# EAGLE library part LYPR540AH (library CSEDIT-SparkFun-Old)
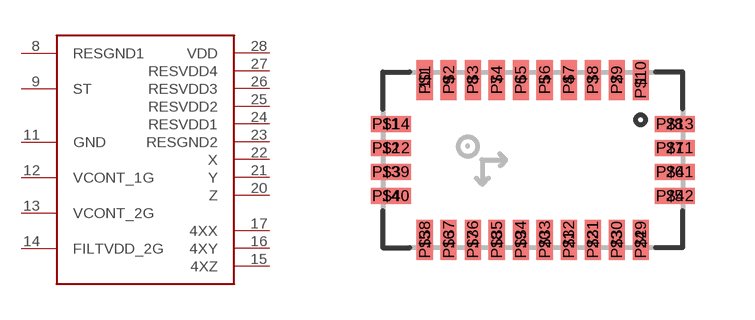
[diagram p291: symbol with the pads of LGA28L; footprint LGA28L]

Designator prefix -

## LYPR540AH  [LGA28L]
8  RESGND1
9  ST
11  GND
12  VCONT_1G
13  VCONT_2G
14  FILTVDD_2G
15  4XZ
16  4XY
17  4XX
20  Z
21  Y
22  X
23  RESGND2
24  RESVDD1
25  RESVDD2
26  RESVDD3
27  RESVDD4
28  VDD

## Footprint LGA28L (pad centres in mm)
smd 0.4 x 1: 1 2.7,2; 2 2.1,2; 3 1.5,2; 4 0.9,2; 5 0.3,2; 6 -0.3,2; 7 -0.9,2; 8 -1.5,2; 9 -2.1,2; 10 -2.7,2; 15 -2.7,-2; 16 -2.1,-2; 17 -1.5,-2; 18 -0.9,-2; 19 -0.3,-2; 20 0.3,-2; 21 0.9,-2; 22 1.5,-2; 23 2.1,-2; 24 2.7,-2; P$1 -2.7,2; P$2 -2.1,2; P$3 -1.5,2; P$4 -0.9,2; P$5 -0.3,2; P$6 0.3,2; P$7 0.9,2; P$8 1.5,2; P$9 2.1,2; P$10 2.7,2; P$29 2.7,-2; P$30 2.1,-2; P$31 1.5,-2; P$32 0.9,-2; P$33 0.3,-2; P$34 -0.3,-2; P$35 -0.9,-2; P$36 -1.5,-2; P$37 -2.1,-2; P$38 -2.7,-2
smd 1 x 0.4: 11 -3.55,0.9; 12 -3.55,0.3; 13 -3.55,-0.3; 14 -3.55,-0.9; 25 3.55,-0.9; 26 3.55,-0.3; 27 3.55,0.3; 28 3.55,0.9; P$11 3.55,0.3; P$12 -3.55,0.3; P$13 3.55,0.9; P$14 -3.55,0.9; P$39 -3.55,-0.3; P$40 -3.55,-0.9; P$41 3.55,-0.3; P$42 3.55,-0.9